# EAGLE library part 74099-23 (library con-molex-c-grid)
C-Grid SL
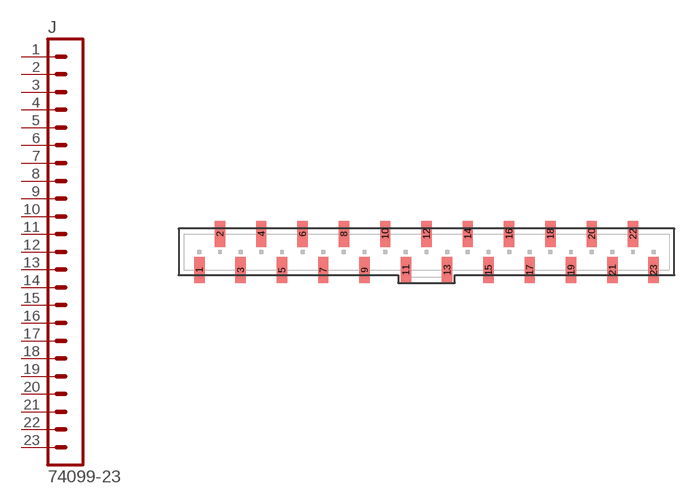
[diagram p57: symbol with the pads of 74099-23; footprint 74099-23]

Designator prefix J

## 74099-23  [74099-23]
1  1  pas
2  2  pas
3  3  pas
4  4  pas
5  5  pas
6  6  pas
7  7  pas
8  8  pas
9  9  pas
10  10  pas
11  11  pas
12  12  pas
13  13  pas
14  14  pas
15  15  pas
16  16  pas
17  17  pas
18  18  pas
19  19  pas
20  20  pas
21  21  pas
22  22  pas
23  23  pas

## Footprint 74099-23 (pad centres in mm)
C-Grid SL vertical, SMD
smd 1.27 x 3.175: 1 -27.94,-2.223; 2 -25.4,2.223; 3 -22.86,-2.223; 4 -20.32,2.223; 5 -17.78,-2.223; 6 -15.24,2.223; 7 -12.7,-2.223; 8 -10.16,2.223; 9 -7.62,-2.223; 10 -5.08,2.223; 11 -2.54,-2.223; 12 0,2.223; 13 2.54,-2.223; 14 5.08,2.223; 15 7.62,-2.223; 16 10.16,2.223; 17 12.7,-2.223; 18 15.24,2.223; 19 17.78,-2.223; 20 20.32,2.223; 21 22.86,-2.223; 22 25.4,2.223; 23 27.94,-2.223